# Altium footprint library Enc_Bourns_PEC16-4220F-S0024_eec_0.PcbLib: 1 footprints
Each footprint in its own frame and in the unit in brackets; x right, y up, seen from the top. Pads: shape width x height; smd on the part's side, far side on the other; paste and mask are expansions set on the pad; w line width, h text height; cw(c..) or ccw(c..) is an arc to the next point about the centre after c.
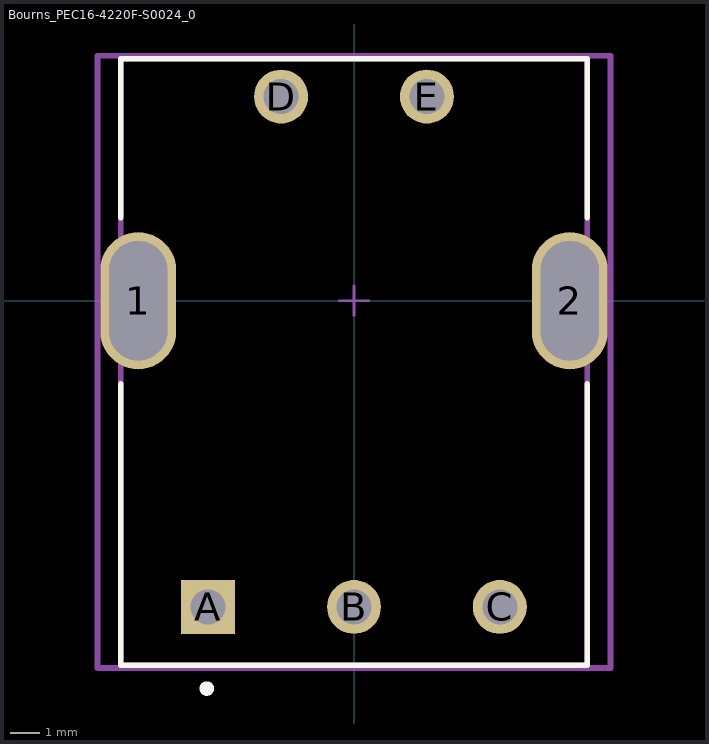
[diagram p0: the footprint, top view; thin cyan lines are the x and y axes]

## Bourns_PEC16-4220F-S0024_0 [mm]
pads (7):
  rrect100% 2.6x4.7 hole 4.1 slot 2 at 0 deg paste-1000 mask+0: 1(-7.4,0) 2(7.4,0)
  rect 1.85x1.85 hole 1.2 paste-1000 mask+0: A(-5,-10.5)
  round 1.85 hole 1.2 paste-1000 mask+0: B(0,-10.5) C(5,-10.5) D(-2.5,7) E(2.5,7)
Top Overlay:
  circle w0.25: c-5.05,-13.3 r0.125
  lines w0.2: -8,-2.85 -8,-12.5 8,-12.5 8,-2.85 ; -8,2.85 -8,8.3 8,8.3 8,2.85
Mechanical 10:
  lines w0.2: -8.8,-12.6 8.8,-12.6 8.8,8.4 -8.8,8.4 -8.8,-12.6
  text ".Designator" at 0,-1.912 h1
Mechanical 12:
  rectangle: 0,0 0,0
  rectangle: 0,0 0,0
  rectangle: 0,0 0,0
  rectangle: 0,0 0,0
  rectangle: 0,0 0,0
  lines w0.2: -8,-12.5 8,-12.5 8,8.3 -8,8.3 -8,-12.5
Mechanical 15:
  lines w0.1: -0.5,0 0.5,0 ; 0,-0.5 0,0.5
  lines w0.2: -8.8,-12.6 8.8,-12.6 8.8,8.4 -8.8,8.4 -8.8,-12.6
3D body "Enc_Bourns_PEC16-4220F-S0024_eec.STEP": height 0.25, standoff 0, extent -8.8,-12.6 8.8,8.4